# Altium footprint library Motherboard_CMOS_MTJ_Biochip_v1.PcbLib: 21 footprints (part 1 of 2)
Each footprint in its own frame and in the unit in brackets; x right, y up, seen from the top. Pads: shape width x height; smd on the part's side, far side on the other; paste and mask are expansions set on the pad; w line width, h text height; cw(c..) or ccw(c..) is an arc to the next point about the centre after c.
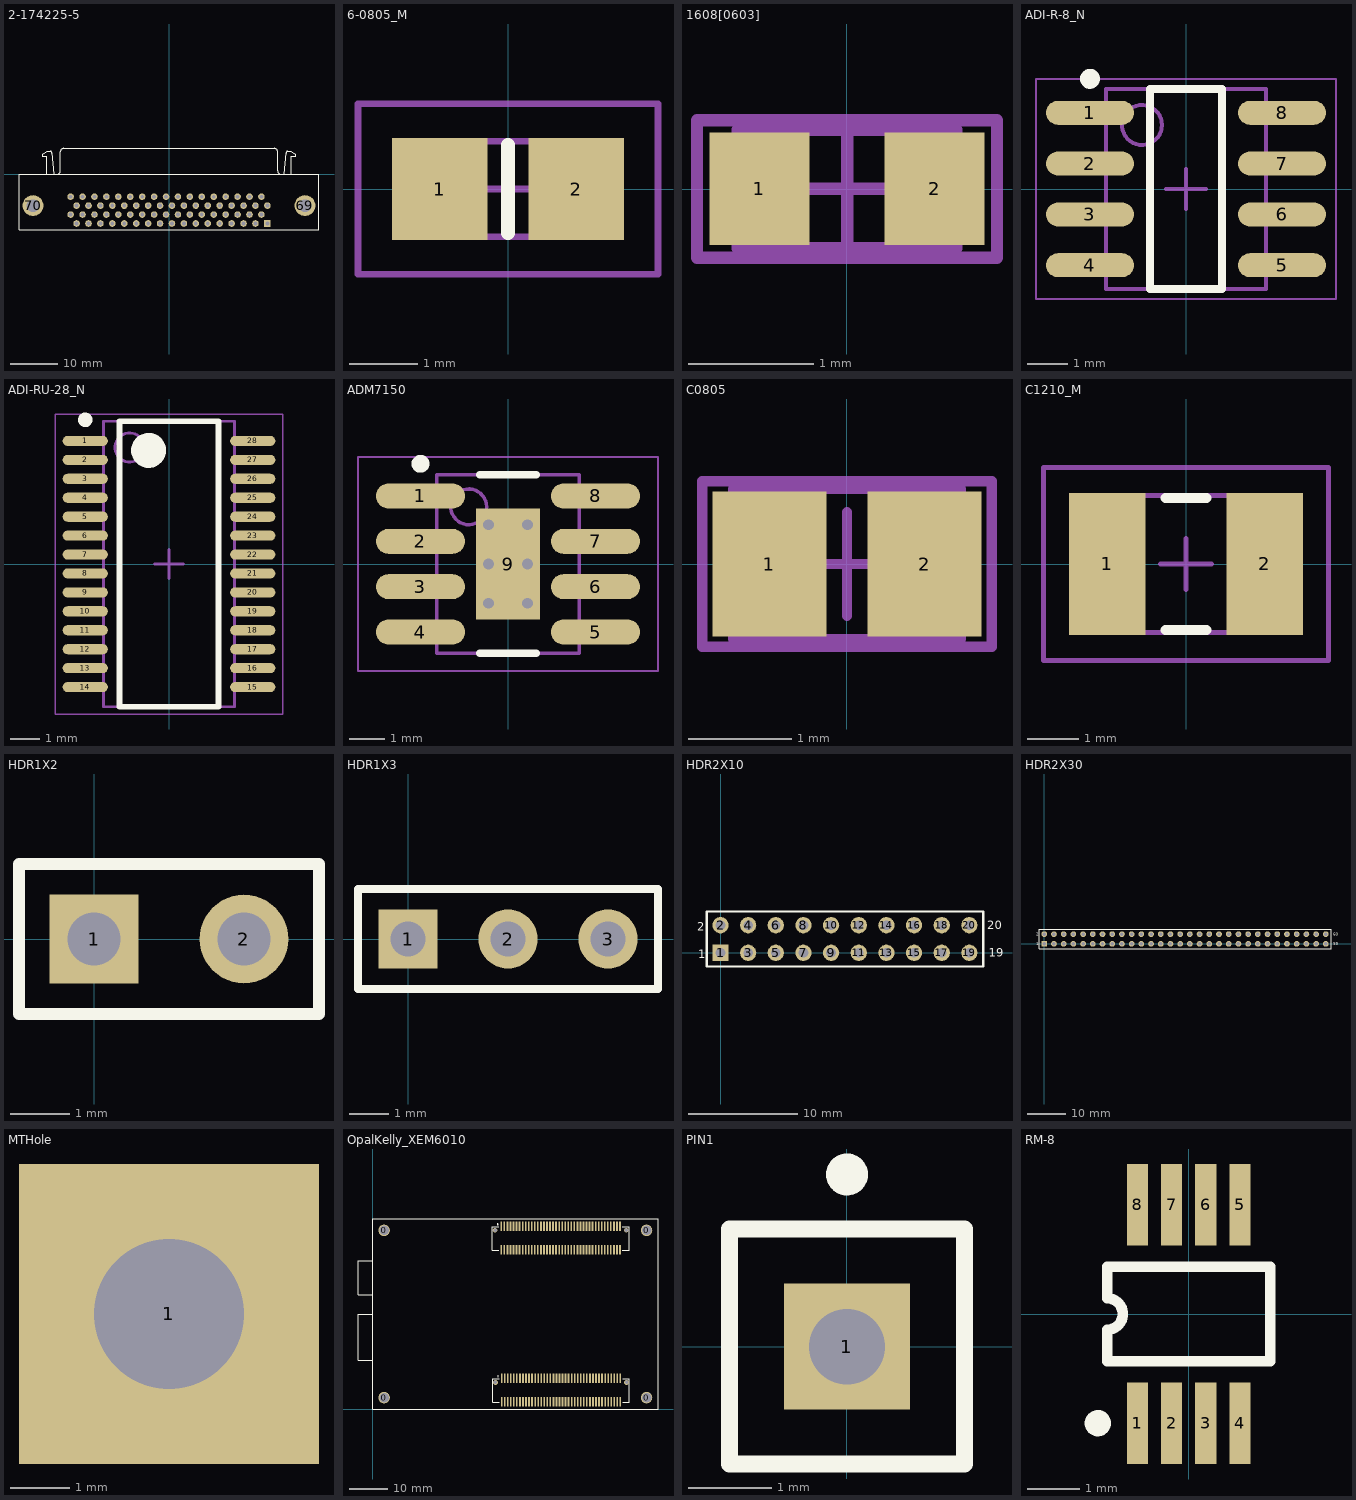
[diagram p0: the footprints below, top view; thin cyan lines are the x and y axes]

## 2-174225-5 [mm]
pads (70):
  rect 1.4x1.4 hole 0.8: 1(20.955,-10.5)
  round 1.4 hole 0.8: 2(19.685,-8.595) 3(18.415,-10.5) 4(17.145,-8.595) 5(15.875,-10.5) 6(14.605,-8.595) 7(13.335,-10.5) 8(12.065,-8.595) 9(10.795,-10.5) 10(9.525,-8.595) 11(8.255,-10.5) 12(6.985,-8.595) 13(5.715,-10.5) 14(4.445,-8.595) 15(3.175,-10.5) 16(1.905,-8.595) 17(0.635,-10.5) 18(-0.635,-8.595) 19(-1.905,-10.5) 20(-3.175,-8.595) 21(-4.445,-10.5) 22(-5.715,-8.595) 23(-6.985,-10.5) 24(-8.255,-8.595) 25(-9.525,-10.5) 26(-10.795,-8.595) 27(-12.065,-10.5) 28(-13.335,-8.595) 29(-14.605,-10.5) 30(-15.875,-8.595) 31(-17.145,-10.5) 32(-18.415,-8.595) 33(-19.685,-10.5) 34(-20.955,-8.595) 35(20.955,-6.69) 36(19.685,-4.785) 37(18.415,-6.69) 38(17.145,-4.785) 39(15.875,-6.69) 40(14.605,-4.785) 41(13.335,-6.69) 42(12.065,-4.785) 43(10.795,-6.69) 44(9.525,-4.785) 45(8.255,-6.69) 46(6.985,-4.785) 47(5.715,-6.69) 48(4.445,-4.785) 49(3.175,-6.69) 50(1.905,-4.785) 51(0.635,-6.69) 52(-0.635,-4.785) 53(-1.905,-6.69) 54(-3.175,-4.785) 55(-4.445,-6.69) 56(-5.715,-4.785) 57(-6.985,-6.69) 58(-8.255,-4.785) 59(-9.525,-6.69) 60(-10.795,-4.785) 61(-12.065,-6.69) 62(-13.335,-4.785) 63(-14.605,-6.69) 64(-15.875,-4.785) 65(-17.145,-6.69) 66(-18.415,-4.785) 67(-19.685,-6.69) 68(-20.955,-4.785)
  round 4.45 hole 2.7: 69(28.955,-6.69) 70(-28.955,-6.69)
Top Overlay:
  lines w0.2: -26.915,4.27 -25.975,4.898 -25.253,4.898 cw(c-25.355,4.5) -24.945,4.5 ; -26.901,4.255 ccw(c-26.675,4.01) -26.925,3.79 -26.045,3.79 -26.045,0 ; -24.945,4.52 -24.575,0 ; -23.835,0.005 ccw(c-23.835,0.7) -23.14,0.7 -23.14,4.805 cw(c-22.445,4.805) -22.445,5.5 22.445,5.5 cw(c22.445,4.805) 23.14,4.805 23.14,0.7 ccw(c23.835,0.7) 23.835,0.005 ; 24.575,0 24.945,4.52 ; 24.945,4.5 cw(c25.355,4.5) 25.253,4.898 25.975,4.898 26.915,4.27 ; 26.045,0 26.045,3.79 26.925,3.79 ccw(c26.675,4.01) 26.901,4.255 ; -31.95,-11.8 -31.95,0 31.95,0 31.95,-11.8 -31.95,-11.8

## 6-0805_M [mm]
pads (2):
  rect 1.4x1.5 smd: 1(-1,0) 2(1,0)
Top Overlay:
  lines w0.2: 0,-0.65 0,0.65
Mechanical 13:
  lines w0.1: -1.075,-0.7 1.075,-0.7 1.075,0.7 -1.075,0.7 -1.075,-0.7
Mechanical 15:
  lines w0.1: -0.5,0 0.5,0 ; 0,-0.5 0,0.5 ; -2.2,-1.25 2.2,-1.25 2.2,1.25 -2.2,1.25 -2.2,-1.25
3D body: height 0.7, standoff 0, extent -1.075,-0.7 1.075,0.7

## 1608[0603] [mm]
pads (2):
  rect 0.8x0.9 smd: 1(-0.7,0) 2(0.7,0)
Mechanical 13:
  lines w0.1: -0.875,-0.475 0.875,-0.475 0.875,0.475 -0.875,0.475 -0.875,-0.475
Mechanical 15:
  lines w0.1: -0.475,0 0.475,0 ; 0,-0.475 0,0.475 ; -1.2,-0.55 1.2,-0.55 1.2,0.55 -1.2,0.55 -1.2,-0.55
3D body: height 1.3, standoff 0, extent -0.875,-0.475 0.875,0.475

## ADI-R-8_N [mm]
pads (8):
  oval 2.2x0.6 smd: 1(-2.4,1.905) 2(-2.4,0.635) 3(-2.4,-0.635) 4(-2.4,-1.905) 5(2.4,-1.905) 6(2.4,-0.635) 7(2.4,0.635) 8(2.4,1.905)
Top Overlay:
  circle w0.25: c-2.4,2.755 r0.125
  lines w0.2: -0.9,-2.5 -0.9,2.5 0.9,2.5 0.9,-2.5 -0.9,-2.5
Mechanical 13:
  circle w0.1: c-1.1,1.6 r0.5
  lines w0.1: -2,-2.5 -2,2.5 2,2.5 2,-2.5 -2,-2.5
Mechanical 15:
  lines w0.05: -3.75,-2.75 -3.75,2.75 3.75,2.75 3.75,-2.75 -3.75,-2.75
  lines w0.1: -0.5,0 0.5,0 ; 0,-0.5 0,0.5
3D body: height 1.75, standoff 0.1, extent -2,-2.5 2,2.5

## ADI-RU-28_N [mm]
pads (28):
  oval 1.55x0.35 smd: 1(-2.875,4.225) 2(-2.875,3.575) 3(-2.875,2.925) 4(-2.875,2.275) 5(-2.875,1.625) 6(-2.875,0.975) 7(-2.875,0.325) 8(-2.875,-0.325) 9(-2.875,-0.975) 10(-2.875,-1.625) 11(-2.875,-2.275) 12(-2.875,-2.925) 13(-2.875,-3.575) 14(-2.875,-4.225) 15(2.875,-4.225) 16(2.875,-3.575) 17(2.875,-2.925) 18(2.875,-2.275) 19(2.875,-1.625) 20(2.875,-0.975) 21(2.875,-0.325) 22(2.875,0.325) 23(2.875,0.975) 24(2.875,1.625) 25(2.875,2.275) 26(2.875,2.925) 27(2.875,3.575) 28(2.875,4.225)
Top Overlay:
  circle w0.25: c-2.875,4.95 r0.125
  circle w0.6: c-0.7,3.9 r0.3
  lines w0.2: -1.7,-4.9 -1.7,4.9 1.7,4.9 1.7,-4.9 -1.7,-4.9
Mechanical 13:
  circle w0.1: c-1.35,4 r0.5
  lines w0.1: -2.25,-4.9 -2.25,4.9 2.25,4.9 2.25,-4.9 -2.25,-4.9
Mechanical 15:
  lines w0.05: -3.9,-5.15 -3.9,5.15 3.9,5.15 3.9,-5.15 -3.9,-5.15
  lines w0.1: -0.5,0 0.5,0 ; 0,-0.5 0,0.5
3D body: height 1.2, standoff 0.05, extent -2.25,-4.9 2.25,4.9

## ADM7150 [mm]
pads (9):
  oval 2.5x0.7 smd: 1(-2.45,1.905) 2(-2.45,0.635) 3(-2.45,-0.635) 4(-2.45,-1.905) 5(2.45,-1.905) 6(2.45,-0.635) 7(2.45,0.635) 8(2.45,1.905)
  rect 1.8x3.1 smd: 9(0,0)
via -0.55,1.1 diameter 0.508 hole 0.305
via 0.55,1.1 diameter 0.508 hole 0.305
via -0.55,0 diameter 0.508 hole 0.305
via 0.55,0 diameter 0.508 hole 0.305
via -0.55,-1.1 diameter 0.508 hole 0.305
via 0.55,-1.1 diameter 0.508 hole 0.305
Top Overlay:
  circle w0.25: c-2.45,2.805 r0.125
  lines w0.2: -0.8,-2.5 0.8,-2.5 ; -0.8,2.5 0.8,2.5
Mechanical 13:
  circle w0.1: c-1.1,1.6 r0.5
  lines w0.1: -2,-2.5 -2,2.5 2,2.5 2,-2.5 -2,-2.5
Mechanical 15:
  lines w0.05: -4.2,-3 -4.2,3 4.2,3 4.2,-3 -4.2,-3
  lines w0.1: -0.5,0 0.5,0 ; 0,-0.5 0,0.5
3D body: height 1.75, standoff 0.1, extent -2,-2.5 2,2.5

## C0805 [mm]
pads (2):
  rect 1.1x1.4 smd: 1(-0.75,0) 2(0.75,0)
Mechanical 13:
  lines w0.1: -1.1,-0.725 -1.1,0.725 1.1,0.725 1.1,-0.725 -1.1,-0.725
Mechanical 15:
  lines w0.1: -0.5,0 0.5,0 ; 0,-0.5 0,0.5 ; -1.4,-0.8 -1.4,0.8 1.4,0.8 1.4,-0.8 -1.4,-0.8
3D body: height 1.4, standoff 0, extent -1.1,-0.725 1.1,0.725

## C1210_M [mm]
pads (2):
  rect 1.5x2.8 smd: 1(-1.55,0) 2(1.55,0)
Top Overlay:
  lines w0.2: -0.4,-1.3 0.4,-1.3 ; -0.4,1.3 0.4,1.3
Mechanical 13:
  lines w0.1: -1.7,-1.35 -1.7,1.35 1.7,1.35 1.7,-1.35 -1.7,-1.35
Mechanical 15:
  lines w0.1: -0.5,0 0.5,0 ; 0,-0.5 0,0.5 ; -2.8,-1.9 -2.8,1.9 2.8,1.9 2.8,-1.9 -2.8,-1.9
3D body: height 1.5, standoff 0, extent -1.7,-1.35 1.7,1.35

## HDR1X2 [mm]
pads (2):
  rect 1.5x1.5 hole 0.9: 1(0,0)
  round 1.5 hole 0.9: 2(2.54,0)
Top Overlay:
  lines w0.2: -1.27,-1.27 -1.27,1.27 3.81,1.27 3.81,-1.27 -1.27,-1.27

## HDR1X3 [mm]
pads (3):
  rect 1.5x1.5 hole 0.9: 1(0,0)
  round 1.5 hole 0.9: 2(2.54,0) 3(5.08,0)
Top Overlay:
  lines w0.2: -1.27,-1.27 -1.27,1.27 6.35,1.27 6.35,-1.27 -1.27,-1.27

## HDR2X10 [mm]
pads (20):
  rect 1.5x1.5 hole 0.9: 1(0,0)
  round 1.5 hole 0.9: 2(0,2.54) 3(2.54,0) 4(2.54,2.54) 5(5.08,0) 6(5.08,2.54) 7(7.62,0) 8(7.62,2.54) 9(10.16,0) 10(10.16,2.54) 11(12.7,0) 12(12.7,2.54) 13(15.24,0) 14(15.24,2.54) 15(17.78,0) 16(17.78,2.54) 17(20.32,0) 18(20.32,2.54) 19(22.86,0) 20(22.86,2.54)
Top Overlay:
  lines w0.2: -1.27,-1.27 -1.27,3.81 0.635,3.81 24.13,3.81 24.13,-1.27 0.635,-1.27 -1.27,-1.27
  text "2" at -2.159,2.032 h0.76
  text "1" at -2.032,-0.508 h0.76
  text "19" at 24.638,-0.381 h0.76
  text "20" at 24.511,2.159 h0.76

## HDR2X30 [mm]
pads (60):
  rect 1.5x1.5 hole 0.9: 1(0,0)
  round 1.5 hole 0.9: 2(0,2.54) 3(2.54,0) 4(2.54,2.54) 5(5.08,0) 6(5.08,2.54) 7(7.62,0) 8(7.62,2.54) 9(10.16,0) 10(10.16,2.54) 11(12.7,0) 12(12.7,2.54) 13(15.24,0) 14(15.24,2.54) 15(17.78,0) 16(17.78,2.54) 17(20.32,0) 18(20.32,2.54) 19(22.86,0) 20(22.86,2.54) 21(25.4,0) 22(25.4,2.54) 23(27.94,0) 24(27.94,2.54) 25(30.48,0) 26(30.48,2.54) 27(33.02,0) 28(33.02,2.54) 29(35.56,0) 30(35.56,2.54) 31(38.1,0) 32(38.1,2.54) 33(40.64,0) 34(40.64,2.54) 35(43.18,0) 36(43.18,2.54) 37(45.72,0) 38(45.72,2.54) 39(48.26,0) 40(48.26,2.54) 41(50.8,0) 42(50.8,2.54) 43(53.34,0) 44(53.34,2.54) 45(55.88,0) 46(55.88,2.54) 47(58.42,0) 48(58.42,2.54) 49(60.96,0) 50(60.96,2.54) 51(63.5,0) 52(63.5,2.54) 53(66.04,0) 54(66.04,2.54) 55(68.58,0) 56(68.58,2.54) 57(71.12,0) 58(71.12,2.54) 59(73.66,0) 60(73.66,2.54)
Top Overlay:
  lines w0.2: -1.27,-1.27 75.06,-1.27 75.06,3.81 -1.27,3.81 -1.27,-1.27
  text "60" at 75.565,2.159 h0.76
  text "59" at 75.565,-0.381 h0.76
  text "1" at -2.032,-0.381 h0.76
  text "2" at -2.159,2.159 h0.76

## MTHole [mm]
pads (1):
  rect 5.08x5.08 hole 2.54: 1(-25.4,14.605)

## OpalKelly_XEM6010 [mil]
pads (164):
  round 118.11 hole 100: 0(118.11,118.11) 0(118.11,1850.39) 0(2834.65,118.11) 0(2834.65,1850.39)
  rect 18x100 smd: 1(1334.57,318.35) 2(1334.57,75.35) 3(1366.07,318.35) 4(1366.07,75.35) 5(1397.57,318.35) 6(1397.57,75.35) 7(1429.07,318.35) 8(1429.07,75.35) 9(1460.57,318.35) 10(1460.57,75.35) 11(1492.07,318.35) 12(1492.07,75.35) 13(1523.57,318.35) 14(1523.57,75.35) 15(1555.07,318.35) 16(1555.07,75.35) 17(1586.57,318.35) 18(1586.57,75.35) 19(1618.07,318.35) 20(1618.07,75.35) 21(1649.57,318.35) 22(1649.57,75.35) 23(1681.07,318.35) 24(1681.07,75.35) 25(1712.57,318.35) 26(1712.57,75.35) 27(1744.07,318.35) 28(1744.07,75.35) 29(1775.57,318.35) 30(1775.57,75.35) 31(1807.07,318.35) 32(1807.07,75.35) 33(1838.57,318.35) 34(1838.57,75.35) 35(1870.07,318.35) 36(1870.07,75.35) 37(1901.57,318.35) 38(1901.57,75.35) 39(1933.07,318.35) 40(1933.07,75.35) 41(1964.57,318.35) 42(1964.57,75.35) 43(1996.07,318.35) 44(1996.07,75.35) 45(2027.57,318.35) 46(2027.57,75.35) 47(2059.07,318.35) 48(2059.07,75.35) 49(2090.57,318.35) 50(2090.57,75.35) 51(2122.07,318.35) 52(2122.07,75.35) 53(2153.57,318.35) 54(2153.57,75.35) 55(2185.07,318.35) 56(2185.07,75.35) 57(2216.57,318.35) 58(2216.57,75.35) 59(2248.07,318.35) 60(2248.07,75.35) 61(2279.57,318.35) 62(2279.57,75.35) 63(2311.07,318.35) 64(2311.07,75.35) 65(2342.57,318.35) 66(2342.57,75.35) 67(2374.07,318.35) 68(2374.07,75.35) 69(2405.57,318.35) 70(2405.57,75.35) 71(2437.07,318.35) 72(2437.07,75.35) 73(2468.57,318.35) 74(2468.57,75.35) 75(2500.07,318.35) 76(2500.07,75.35) 77(2531.57,318.35) 78(2531.57,75.35) 79(2563.07,318.33) 80(2563.07,75.35) 81(1331.04,1893.14) 82(1331.04,1650.14) 83(1362.54,1893.14) 84(1362.54,1650.14) 85(1394.04,1893.14) 86(1394.04,1650.14) 87(1425.54,1893.14) 88(1425.54,1650.14) 89(1457.04,1893.14) 90(1457.04,1650.14) 91(1488.54,1893.14) 92(1488.54,1650.14) 93(1520.04,1893.14) 94(1520.04,1650.14) 95(1551.54,1893.14) 96(1551.54,1650.14) 97(1583.04,1893.14) 98(1583.04,1650.14) 99(1614.54,1893.14) 100(1614.54,1650.14) 101(1646.04,1893.14) 102(1646.04,1650.14) 103(1677.54,1893.14) 104(1677.54,1650.14) 105(1709.04,1893.14) 106(1709.04,1650.14) 107(1740.54,1893.14) 108(1740.54,1650.14) 109(1772.04,1893.14) 110(1772.04,1650.14) 111(1803.54,1893.14) 112(1803.54,1650.14) 113(1835.04,1893.14) 114(1835.04,1650.14) 115(1866.54,1893.14) 116(1866.54,1650.14) 117(1898.04,1893.14) 118(1898.04,1650.14) 119(1929.54,1893.14) 120(1929.54,1650.14) 121(1961.04,1893.14) 122(1961.04,1650.14) 123(1992.54,1893.14) 124(1992.54,1650.14) 125(2024.04,1893.14) 126(2024.04,1650.14) 127(2055.54,1893.14) 128(2055.54,1650.14) 129(2087.04,1893.14) 130(2087.04,1650.14) 131(2118.54,1893.14) 132(2118.54,1650.14) 133(2150.04,1893.14) 134(2150.04,1650.14) 135(2181.54,1893.14) 136(2181.54,1650.14) 137(2213.04,1893.14) 138(2213.04,1650.14) 139(2244.54,1893.14) 140(2244.54,1650.14) 141(2276.04,1893.14) 142(2276.04,1650.14) 143(2307.54,1893.14) 144(2307.54,1650.14) 145(2339.04,1893.14) 146(2339.04,1650.14) 147(2370.54,1893.14) 148(2370.54,1650.14) 149(2402.04,1893.14) 150(2402.04,1650.14) 151(2433.54,1893.14) 152(2433.54,1650.14) 153(2465.04,1893.14) 154(2465.04,1650.14) 155(2496.54,1893.14) 156(2496.54,1650.14) 157(2528.04,1893.14) 158(2528.04,1650.14) 159(2559.54,1893.14) 160(2559.54,1650.14)
via 1266.54,1851.64 diameter 50 hole 35
via 2624.04,1851.64 diameter 50 hole 35
via 1270.07,276.85 diameter 50 hole 35
via 2627.57,276.85 diameter 50 hole 35
Top Overlay:
  circle w10: c1293.04,1912.64 r5
  circle w10: c1296.57,337.85 r5
  circle w10: c118.11,118.11 r49.21
  circle w10: c118.11,1850.39 r49.21
  circle w10: c2834.65,1850.39 r49.21
  circle w10: c2834.65,118.11 r49.21
  lines w10: 0,364 2,366 ; 0,507.87 -152.36,507.87 -152.36,980.32 0,980.32 ; 0,1181.1 -152.36,1181.1 -152.36,1535.43 0,1535.43 ; 1306.04,1889.14 1236.54,1889.14 1236.54,1646.14 1306.54,1646.14 ; 1309.57,314.35 1240.07,314.35 1240.07,71.35 1310.07,71.35 ; 2584.54,1646.14 2654.04,1646.14 2654.04,1889.14 2584.54,1889.14 ; 2588.07,71.35 2657.57,71.35 2657.57,314.35 2588.07,314.35 ; 0,0 2952.76,0 2952.76,1968.5 0,1968.5 0,0

## PIN1 [mm]
pads (1):
  rect 1.5x1.5 hole 0.9: 1(0,0)
Top Overlay:
  circle w0.25: c0,2.05 r0.125
  lines w0.2: -1.4,-1.4 1.4,-1.4 1.4,1.4 -1.4,1.4 -1.4,-1.4

## RM-8 [mm]
pads (8):
  rect 0.4x1.55 smd: 1(-0.975,-2.075) 2(-0.325,-2.075) 3(0.325,-2.075) 4(0.975,-2.075) 5(0.975,2.075) 6(0.325,2.075) 7(-0.325,2.075) 8(-0.975,2.075)
Top Overlay:
  circle w0.25: c-1.725,-2.075 r0.125
  lines w0.2: -1.55,-0.9 1.55,-0.9 1.55,0.9 -1.55,0.9 -1.55,0.3 cw(c-1.55,0) -1.55,-0.3 -1.55,-0.9